# EAGLE library part MCP6S21 (library FSAE Electric (Alexander Ray's conflicted copy 2016-04-02))
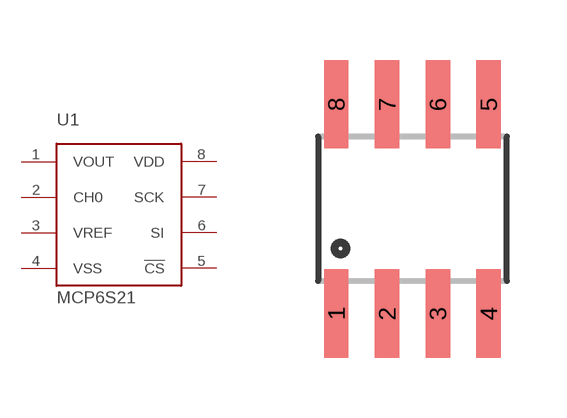
[diagram p6: symbol with the pads of SO-8; footprint SO-8]

Designator prefix U1

## MCP6S21 (PARTNO: MCP6S21-I/SN)  [SO-8]
1  VOUT
2  CH0
3  VREF
4  VSS
5  !CS
6  SI
7  SCK
8  VDD

## Footprint SO-8 (pad centres in mm)
smd 0.61 x 2.21: 1 -1.905,-2.616; 2 -0.635,-2.616; 3 0.635,-2.616; 4 1.905,-2.616; 5 1.905,2.616; 6 0.635,2.616; 7 -0.635,2.616; 8 -1.905,2.616